# Altium footprint library PcbLib2.PcbLib: 45 footprints (part 3 of 3)
Each footprint in its own frame and in the unit in brackets; x right, y up, seen from the top. Pads: shape width x height; smd on the part's side, far side on the other; paste and mask are expansions set on the pad; w line width, h text height; cw(c..) or ccw(c..) is an arc to the next point about the centre after c.
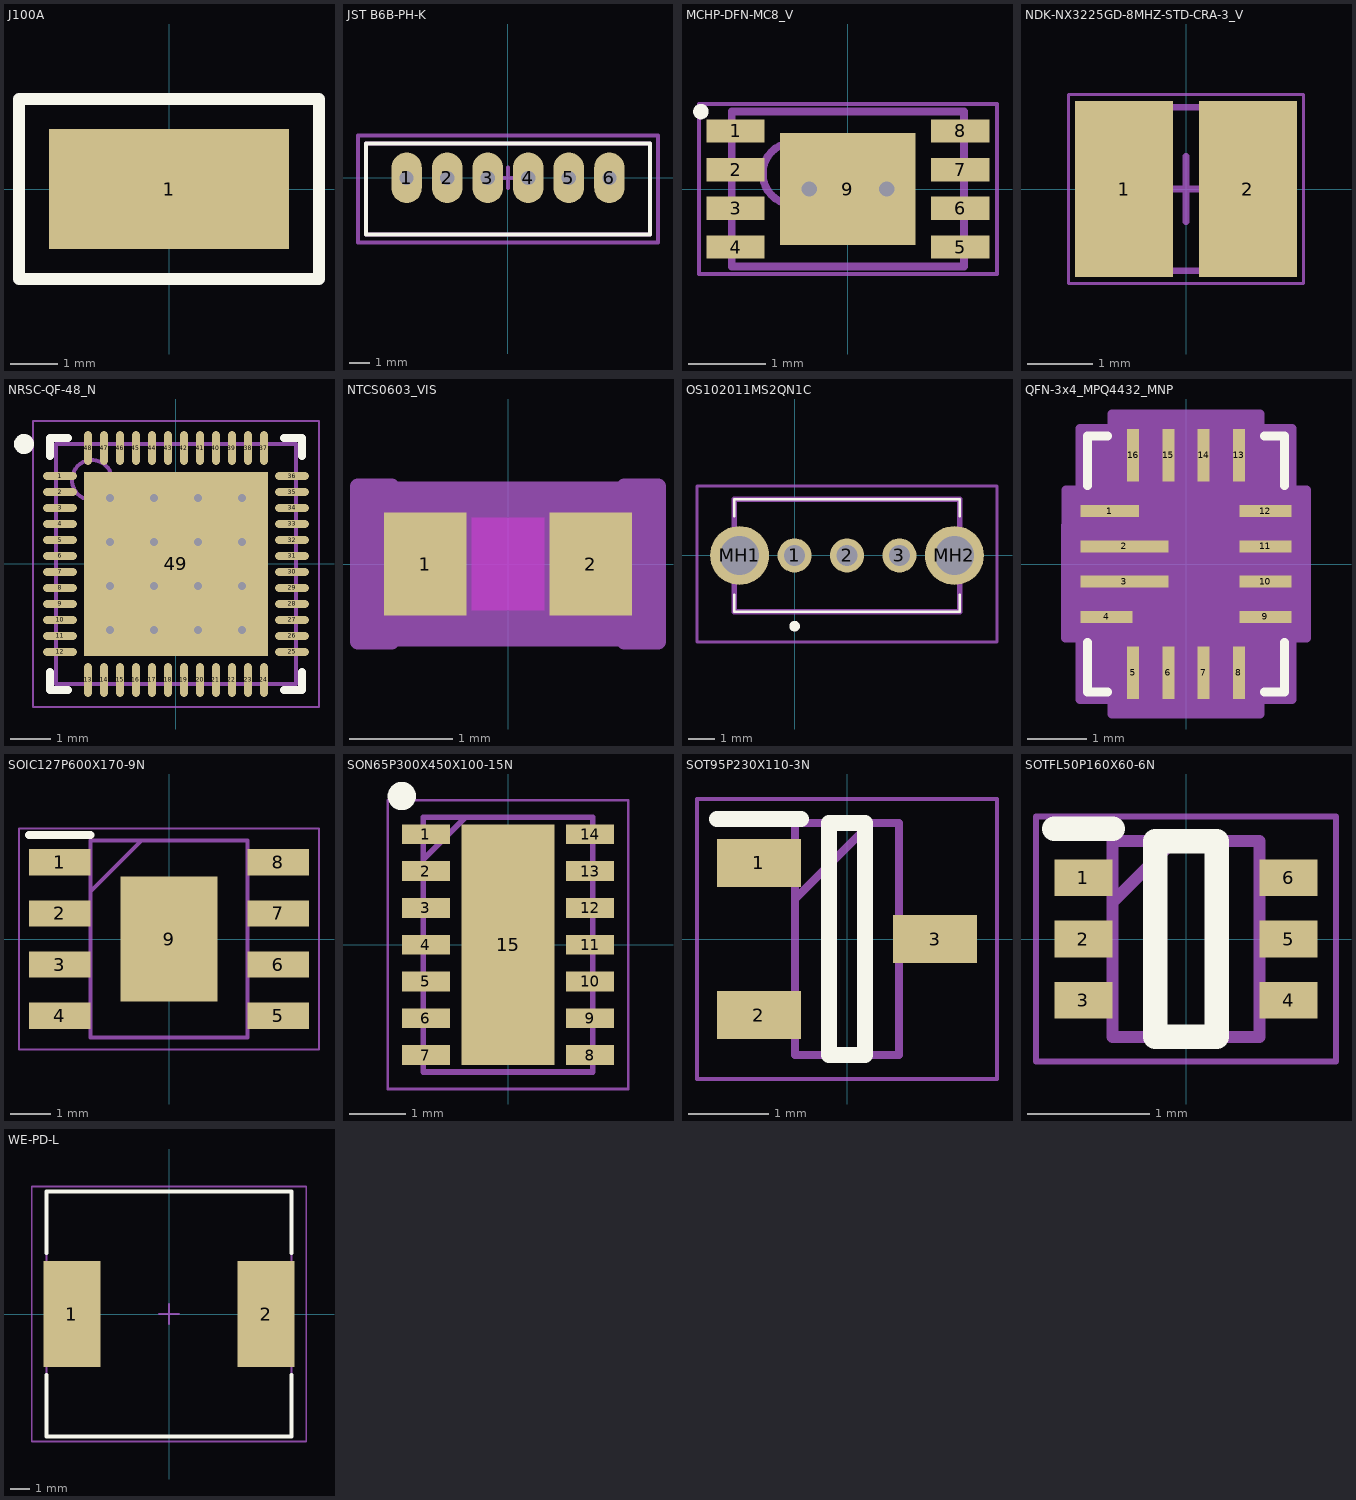
[diagram p2: the footprints below, top view; thin cyan lines are the x and y axes]

## J100A [mm]
pads (1):
  rect 5.08x2.54 smd: 1(0,0)
Top Overlay:
  lines w0.254: -3.175,-1.905 3.175,-1.905 3.175,1.905 -3.175,1.905 -3.175,0 -3.175,-1.905

## JST B6B-PH-K [mm]
height 6
pads (6):
  oval 1.5x2.5 hole 0.7: 1(-5,0) 2(-3,0) 3(-1,0) 4(1,0) 5(3,0) 6(5,0)
Top Overlay:
  lines w0.2: -7,-2.8 -7,1.7 7,1.7 7,-2.8 -7,-2.8
Bottom Overlay:
  circle w0.254: c-6.1,1.1 r0.141
Top 3D Body:
  lines w0.2: 6.95,-2.8 -7,-2.8 -7,1.7 7,1.7 7,-2.8
Top Courtyard:
  lines w0.2: -0.5,0 0.5,0 ; 0,-0.5 0,0.5 ; -7.4,-3.2 7.4,-3.2 7.4,2.1 -7.4,2.1 -7.4,-3.2
3D body "JST B6B-PH-K-S.STEP": height 6, standoff -3.4, extent -6.95,-2.8 6.95,1.7

## MCHP-DFN-MC8_V [mm] "SON, 8-Leads, Body 3x2mm, Pitch 0.5mm, Thermal Pad 1.45x1.75mm"
height 1
pads (9):
  rect 0.75x0.3 smd mask+0.102: 1(-1.45,0.75) 2(-1.45,0.25) 3(-1.45,-0.25) 4(-1.45,-0.75) 5(1.45,-0.75) 6(1.45,-0.25) 7(1.45,0.25) 8(1.45,0.75)
  rect 1.75x1.45 smd mask+0.102: 9(0,0)
via -0.5,0 diameter 0.5 hole 0.2
via 0.5,0 diameter 0.5 hole 0.2
Top Overlay:
  circle w0.1: c-1.9,1 r0.05
Top 3D Body:
  circle w0.1: c-0.7,0.2 r0.4
  lines w0.1: -1.5,-1 -1.5,1 1.5,1 1.5,-1 -1.5,-1
Top Courtyard:
  lines w0.05: -1.925,-1.1 -1.925,1.1 1.925,1.1 1.925,-1.1 -1.925,-1.1
  lines w0.1: -0.5,0 0.5,0 ; 0,-0.5 0,0.5
3D body: height 1, standoff 0, extent -1.5,-1 1.5,1

## NDK-NX3225GD-8MHZ-STD-CRA-3_V [mm] "SMD, 2-Leads, Body 3.2x2.5mm"
height 1
pads (2):
  rect 1.5x2.7 smd: 1(-0.95,0) 2(0.95,0)
Top 3D Body:
  lines w0.1: -1.6,-1.25 1.6,-1.25 1.6,1.25 -1.6,1.25 -1.6,-1.25
Top Courtyard:
  lines w0.05: -1.8,-1.45 -1.8,1.45 1.8,1.45 1.8,-1.45 -1.8,-1.45
  lines w0.1: -0.5,0 0.5,0 ; 0,-0.5 0,0.5
3D body: height 1, standoff 0, extent -1.599,-1.249 1.599,1.249

## NRSC-QF-48_N [mm] "QFN, 48-Leads, Body 6.00x6.00mm, Pitch 0.40mm, Thermal Pad 4.60x4.60mm, IPC Medium Density"
height 0.9
pads (49):
  oval 0.85x0.2 smd: 1(-2.9,2.2) 2(-2.9,1.8) 3(-2.9,1.4) 4(-2.9,1) 5(-2.9,0.6) 6(-2.9,0.2) 7(-2.9,-0.2) 8(-2.9,-0.6) 9(-2.9,-1) 10(-2.9,-1.4) 11(-2.9,-1.8) 12(-2.9,-2.2) 25(2.9,-2.2) 26(2.9,-1.8) 27(2.9,-1.4) 28(2.9,-1) 29(2.9,-0.6) 30(2.9,-0.2) 31(2.9,0.2) 32(2.9,0.6) 33(2.9,1) 34(2.9,1.4) 35(2.9,1.8) 36(2.9,2.2)
  oval 0.2x0.85 smd: 13(-2.2,-2.9) 14(-1.8,-2.9) 15(-1.4,-2.9) 16(-1,-2.9) 17(-0.6,-2.9) 18(-0.2,-2.9) 19(0.2,-2.9) 20(0.6,-2.9) 21(1,-2.9) 22(1.4,-2.9) 23(1.8,-2.9) 24(2.2,-2.9) 37(2.2,2.9) 38(1.8,2.9) 39(1.4,2.9) 40(1,2.9) 41(0.6,2.9) 42(0.2,2.9) 43(-0.2,2.9) 44(-0.6,2.9) 45(-1,2.9) 46(-1.4,2.9) 47(-1.8,2.9) 48(-2.2,2.9)
  rect 4.6x4.6 smd: 49(0,0)
via 1.65,-1.65 diameter 0.5 hole 0.2
via 0.55,-1.65 diameter 0.5 hole 0.2
via -0.55,-1.65 diameter 0.5 hole 0.2
via -1.65,-1.65 diameter 0.5 hole 0.2
via 1.65,-0.55 diameter 0.5 hole 0.2
via 0.55,-0.55 diameter 0.5 hole 0.2
via -0.55,-0.55 diameter 0.5 hole 0.2
via -1.65,-0.55 diameter 0.5 hole 0.2
via 1.65,0.55 diameter 0.5 hole 0.2
via 0.55,0.55 diameter 0.5 hole 0.2
via -0.55,0.55 diameter 0.5 hole 0.2
via -1.65,0.55 diameter 0.5 hole 0.2
via 1.65,1.65 diameter 0.5 hole 0.2
via 0.55,1.65 diameter 0.5 hole 0.2
via -0.55,1.65 diameter 0.5 hole 0.2
via -1.65,1.65 diameter 0.5 hole 0.2
Top Overlay:
  circle w0.25: c-3.8,3 r0.125
  lines w0.2: -3.15,-2.7 -3.15,-3.15 -2.7,-3.15 ; -3.15,2.7 -3.15,3.15 -2.7,3.15 ; 2.7,-3.15 3.15,-3.15 3.15,-2.7 ; 2.7,3.15 3.15,3.15 3.15,2.7
Top 3D Body:
  circle w0.1: c-2.1,2.1 r0.5
  lines w0.1: -3,-3 3,-3 3,3 -3,3 -3,-3
Top Courtyard:
  lines w0.05: -3.575,-3.575 3.575,-3.575 3.575,3.575 -3.575,3.575 -3.575,-3.575
  lines w0.1: -0.5,0 0.5,0 ; 0,-0.5 0,0.5
3D body: height 0.9, standoff 0, extent -3,-3 3,3

## NTCS0603_VIS [mm]
pads (2):
  rect 0.8x1 smd paste+0 mask+0: 1(-0.8,0) 2(0.8,0)
Top Layer keep-out:
  region: -0.349,-0.449 -0.349,0.449 0.349,0.449 0.349,-0.449
Top 3D Body:
  lines w0.025: -0.876,-0.47 0.876,-0.47 0.876,0.47 -0.876,0.47 -0.876,-0.47
Top Courtyard:
  region: -1.13,-0.754 -1.454,-0.754 -1.454,0.754 -1.13,0.754 -1.13,0.724 1.13,0.724 1.13,0.754 1.454,0.754 1.454,-0.754 1.13,-0.754 1.13,-0.724 -1.13,-0.724
  lines w0.152: -1.454,-0.754 -1.454,0.754 -1.13,0.754 -1.13,0.724 1.13,0.724 1.13,0.754 1.454,0.754 1.454,-0.754 1.13,-0.754 1.13,-0.724 -1.13,-0.724 -1.13,-0.754 -1.454,-0.754
3D body "NTCS0603_VIS.step": height 0.94, standoff 0, extent -0.876,-0.47 0.876,0.47

## OS102011MS2QN1C [mm]
pads (5):
  round 1.3 hole 0.8: 1(0,0) 2(2,0) 3(4,0)
  round 2.25 hole 1.5: MH1(-2.1,0) MH2(6.1,0)
Top Overlay:
  lines w0.1: -2.3,-1.5 -2.3,-2.15 6.3,-2.15 6.3,-1.5 ; -2.3,1.5 -2.3,2.15 6.3,2.15 6.3,1.5
  lines w0.2: -0.1,-2.7 ccw(c0,-2.7) 0.1,-2.7 ccw(c0,-2.7) -0.1,-2.7
Top 3D Body:
  lines w0.2: -2.3,-2.15 6.3,-2.15 6.3,2.15 -2.3,2.15 -2.3,-2.15
Top Courtyard:
  lines w0.1: -3.725,-3.3 7.725,-3.3 7.725,2.65 -3.725,2.65 -3.725,-3.3
3D body "OS102011MS2QN1C.stp": height 8.61, standoff -2.89, extent -2.3,-2.15 6.3,2.15

## QFN-3x4_MPQ4432_MNP [mil]
pads (16):
  rect 39x8 smd paste+0 mask+0: 1(-50.94,35.43)
  rect 59x8 smd paste+0 mask+0: 2(-41.14,11.81) 3(-41.14,-11.81)
  rect 35x8 smd paste+0 mask+0: 4(-53.15,-35.43) 9(53.15,-35.43) 10(53.15,-11.81) 11(53.15,11.81) 12(53.15,35.43)
  rect 8x35 smd paste+0 mask+0: 5(-35.43,-72.83) 6(-11.81,-72.83) 7(11.81,-72.83) 8(35.43,-72.83) 13(35.43,72.83) 14(11.81,72.83) 15(-11.81,72.83) 16(-35.43,72.83)
Top Overlay:
  lines w6: -66,-52.53 -66,-85.5 -52.53,-85.5 ; -66,52.53 -66,85.5 -52.53,85.5 ; 52.53,-85.5 66,-85.5 66,-52.53 ; 52.53,85.5 66,85.5 66,52.53
Top 3D Body:
  lines w1: -61,30.5 -11,80.5 ; -61,-80.5 -61,80.5 61,80.5 61,-80.5 -61,-80.5
Top Courtyard:
  region: -49.43,90.5 -71,90.5 -71,49.43 -80.44,49.43 -80.44,25.81 -80.64,25.81 -80.64,-21.43 -80.65,-21.43 -80.65,-49.43 -71,-49.43 -71,-90.5 -49.43,-90.5 -49.43,-100.33 49.43,-100.33 49.43,-90.5 71,-90.5 71,-49.43 80.65,-49.43 80.65,49.43 71,49.43 71,90.5 49.43,90.5 49.43,100.33 -49.43,100.33
  lines w6: -80.65,-21.43 -80.65,-49.43 -71,-49.43 -71,-90.5 -49.43,-90.5 -49.43,-100.33 49.43,-100.33 49.43,-90.5 71,-90.5 71,-49.43 80.65,-49.43 80.65,49.43 71,49.43 71,90.5 49.43,90.5 49.43,100.33 -49.43,100.33 -49.43,90.5 -71,90.5 -71,49.43 -80.44,49.43 -80.44,25.81 -80.64,25.81 -80.64,-21.43 ; -80.65,-21.43 -80.64,-21.43

## SOIC127P600X170-9N [mm]
pads (9):
  rect 1.525x0.65 smd: 1(-2.712,1.905) 2(-2.712,0.635) 3(-2.712,-0.635) 4(-2.712,-1.905) 5(2.712,-1.905) 6(2.712,-0.635) 7(2.712,0.635) 8(2.712,1.905)
  rect 2.4x3.1 smd: 9(0,0)
Top Overlay:
  lines w0.2: -3.475,2.58 -1.95,2.58
Top 3D Body:
  lines w0.1: -1.95,1.18 -0.68,2.45 ; -1.95,-2.45 1.95,-2.45 1.95,2.45 -1.95,2.45 -1.95,-2.45
Top Courtyard:
  lines w0.05: -3.725,-2.75 3.725,-2.75 3.725,2.75 -3.725,2.75 -3.725,-2.75
3D body "UCC27212AQDDARQ1.stp": height 1.57, standoff 0, extent -3,-2.45 3,2.45

## SON65P300X450X100-15N [mm]
pads (15):
  rect 0.85x0.35 smd: 1(-1.45,1.95) 2(-1.45,1.3) 3(-1.45,0.65) 4(-1.45,0) 5(-1.45,-0.65) 6(-1.45,-1.3) 7(-1.45,-1.95) 8(1.45,-1.95) 9(1.45,-1.3) 10(1.45,-0.65) 11(1.45,0) 12(1.45,0.65) 13(1.45,1.3) 14(1.45,1.95)
  rect 1.65x4.25 smd: 15(0,0)
Top Overlay:
  circle w0.25: c-1.875,2.625 r0.125
Top 3D Body:
  lines w0.1: -1.5,1.5 -0.75,2.25 ; -1.5,-2.25 1.5,-2.25 1.5,2.25 -1.5,2.25 -1.5,-2.25
Top Courtyard:
  lines w0.05: -2.125,-2.55 2.125,-2.55 2.125,2.55 -2.125,2.55 -2.125,-2.55
3D body "UJA1162ATK_0Z.stp": height 1, standoff 0, extent -1.55,-2.25 1.55,2.25

## SOT95P230X110-3N [mm]
pads (3):
  rect 1.05x0.6 smd: 1(-1.1,0.95) 2(-1.1,-0.95) 3(1.1,0)
Top Overlay:
  lines w0.2: -1.625,1.5 -0.575,1.5 ; -0.225,-1.45 0.225,-1.45 0.225,1.45 -0.225,1.45 -0.225,-1.45
Top 3D Body:
  lines w0.1: -0.65,0.5 0.3,1.45 ; -0.65,-1.45 0.65,-1.45 0.65,1.45 -0.65,1.45 -0.65,-1.45
Top Courtyard:
  lines w0.05: -1.875,-1.75 1.875,-1.75 1.875,1.75 -1.875,1.75 -1.875,-1.75
3D body "PESD1CAN,215.stp": height 0.95, standoff 0, extent -1.201,-1.448 1.199,1.452

## SOTFL50P160X60-6N [mm]
pads (6):
  rect 0.475x0.3 smd: 1(-0.838,0.5) 2(-0.838,0) 3(-0.838,-0.5) 4(0.838,-0.5) 5(0.838,0) 6(0.838,0.5)
Top Overlay:
  lines w0.2: -1.075,0.9 -0.6,0.9 ; -0.25,-0.8 0.25,-0.8 0.25,0.8 -0.25,0.8 -0.25,-0.8
Top 3D Body:
  lines w0.1: -0.6,0.3 -0.1,0.8 ; -0.6,-0.8 0.6,-0.8 0.6,0.8 -0.6,0.8 -0.6,-0.8
Top Courtyard:
  lines w0.05: -1.225,-1 1.225,-1 1.225,1 -1.225,1 -1.225,-1
3D body "DSILC6-4P6.stp": height 0.6, standoff 0, extent -0.8,-0.8 0.8,0.8

## WE-PD-L [mm] "SMD Inductor, 2-Leads, Body 12.0 x 12.0 mm"
height 6
pads (2):
  rect 2.9x5.4 smd: 1(-4.95,0) 2(4.95,0)
Top Overlay:
  lines w0.2: -6.25,-3.1 -6.25,-6.25 6.25,-6.25 6.25,-3.1 ; -6.25,3.1 -6.25,6.25 6.25,6.25 6.25,3.1
Top 3D Body:
  lines w0.1: -6.25,-6.25 -6.25,6.25 6.25,6.25 6.25,-6.25 -6.25,-6.25
Top Courtyard:
  lines w0.1: -0.5,0 0.5,0 ; 0,-0.5 0,0.5 ; -7,-6.5 -7,6.5 7,6.5 7,-6.5 -7,-6.5
3D body "744771001.stp": height 5.98, standoff -0.02, extent -6,-6 6,6